# Altium footprint library SMD Capacitors.PcbLib: 4 footprints
Each footprint in its own frame and in the unit in brackets; x right, y up, seen from the top. Pads: shape width x height; smd on the part's side, far side on the other; paste and mask are expansions set on the pad; w line width, h text height; cw(c..) or ccw(c..) is an arc to the next point about the centre after c.
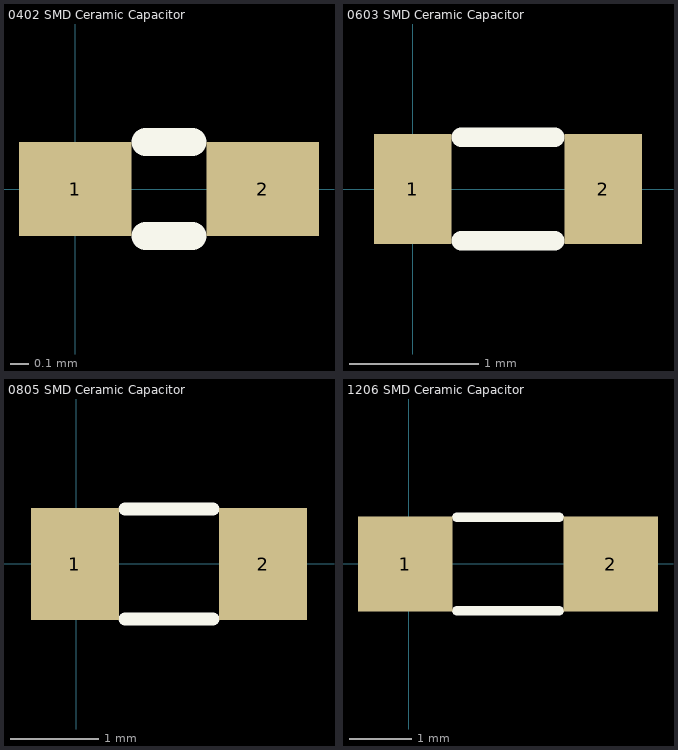
[diagram p0: the footprints below, top view; thin cyan lines are the x and y axes]

## 0402 SMD Ceramic Capacitor [mm]
pads (2):
  rect 0.6x0.5 smd: 1(0,0) 2(1,0)
Top Overlay:
  lines w0.15: 0.375,-0.25 0.625,-0.25 ; 0.375,0.25 0.625,0.25
3D body: height 0.6, standoff 0, extent 0,-0.25 1,0.25

## 0603 SMD Ceramic Capacitor [mm]
pads (2):
  rect 0.6x0.85 smd: 1(0,0) 2(1.475,0)
Top Overlay:
  lines w0.15: 0.375,-0.4 1.1,-0.4 ; 0.375,0.4 1.1,0.4
3D body: height 0.9, standoff 0, extent -0.075,-0.4 1.525,0.4

## 0805 SMD Ceramic Capacitor [mm]
pads (2):
  rect 1x1.27 smd: 1(-0.016,0) 2(2.118,0)
Top Overlay:
  lines w0.15: 0.55,-0.625 1.55,-0.625 ; 0.55,0.625 1.55,0.625
3D body: height 1, standoff 0, extent 0,-0.625 2,0.625

## 1206 SMD Ceramic Capacitor [mil]
pads (2):
  rect 60x60 smd: 1(-2.01,-0.01) 2(127.99,-0.01)
Top Overlay:
  lines w5.91: 30.51,-29.53 95.47,-29.53 ; 30.51,29.53 95.47,29.53
3D body: height 39.37, standoff 0, extent 0,-31.5 125.98,31.49